# Altium footprint library ChestStrap_HeartRate.PcbLib: 2 footprints
Each footprint in its own frame and in the unit in brackets; x right, y up, seen from the top. Pads: shape width x height; smd on the part's side, far side on the other; paste and mask are expansions set on the pad; w line width, h text height; cw(c..) or ccw(c..) is an arc to the next point about the centre after c.
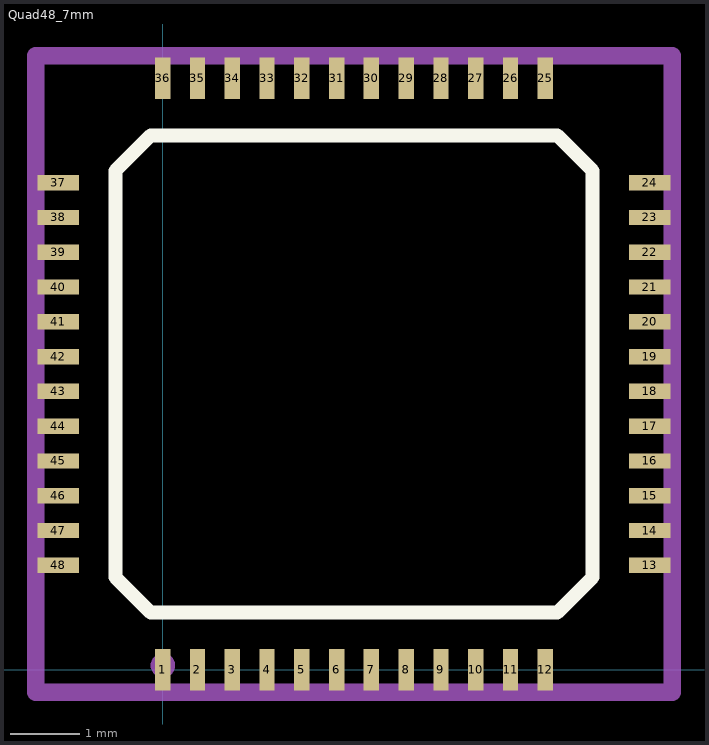
[diagram p0: the footprints below, top view; thin cyan lines are the x and y axes]

## PCBComponent_1 [mm]

## Quad48_7mm [mm]
pads (48):
  rect 0.22x0.6 smd: 1(0,0) 2(0.5,0) 3(1,0) 4(1.5,0) 5(2,0) 6(2.5,0) 7(3,0) 8(3.5,0) 9(4,0) 10(4.5,0) 11(5,0) 12(5.5,0) 25(5.5,8.5) 26(5,8.5) 27(4.5,8.5) 28(4,8.5) 29(3.5,8.5) 30(3,8.5) 31(2.5,8.5) 32(2,8.5) 33(1.5,8.5) 34(1,8.5) 35(0.5,8.5) 36(0,8.5)
  rect 0.6x0.22 smd: 13(7,1.5) 14(7,2) 15(7,2.5) 16(7,3) 17(7,3.5) 18(7,4) 19(7,4.5) 20(7,5) 21(7,5.5) 22(7,6) 23(7,6.5) 24(7,7) 37(-1.5,7) 38(-1.5,6.5) 39(-1.5,6) 40(-1.5,5.5) 41(-1.5,5) 42(-1.5,4.5) 43(-1.5,4) 44(-1.5,3.5) 45(-1.5,3) 46(-1.5,2.5) 47(-1.5,2) 48(-1.5,1.5)
Top Overlay:
  lines w0.2: -0.679,1.329 -0.679,7.171 -0.171,7.679 5.671,7.679 6.179,7.171 6.179,1.329 5.671,0.821 -0.171,0.821 -0.679,1.329
Mechanical 29:
  circle w0.254: c0.004,0.063 r0.048
  lines w0.254: -1.822,-0.322 7.322,-0.322 7.322,8.822 -1.822,8.822 -1.822,-0.322
  text ".DesignatorS" at 2.404,3.612 h1.52
3D body "User Library-STM32F103C8T6.step": height 1.55, standoff 0, extent -1.678,-0.25 7.322,8.75